# Altium schematic symbol library TPS2553.SchLib: 2 symbols
Pins are listed as number, name and electrical type; pins without a type are passive.

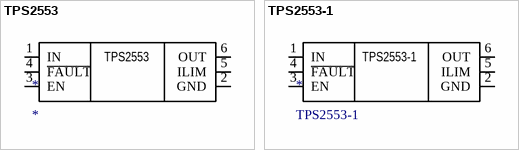
[diagram p0: symbols TPS2553 to TPS2553-1]

## TPS2553
designator *
Precision adjustable current-limited high-side power-distribution switch with constant-current operation, active-high enable, open-drain fault output and reverse input-output voltage protection
pins: 1 IN, 2 GND, 3 EN, 4 ~{FAULT}, 5 ILIM, 6 OUT

## TPS2553-1
designator *
Precision adjustable current-limited high-side power-distribution switch with latch-off, active-high enable, open-drain fault output and reverse input-output voltage protection
pins: 1 IN, 2 GND, 3 EN, 4 ~{FAULT}, 5 ILIM, 6 OUT